# Altium footprint library 282841-2.PcbLib: 1 footprints
Each footprint in its own frame and in the unit in brackets; x right, y up, seen from the top. Pads: shape width x height; smd on the part's side, far side on the other; paste and mask are expansions set on the pad; w line width, h text height; cw(c..) or ccw(c..) is an arc to the next point about the centre after c.
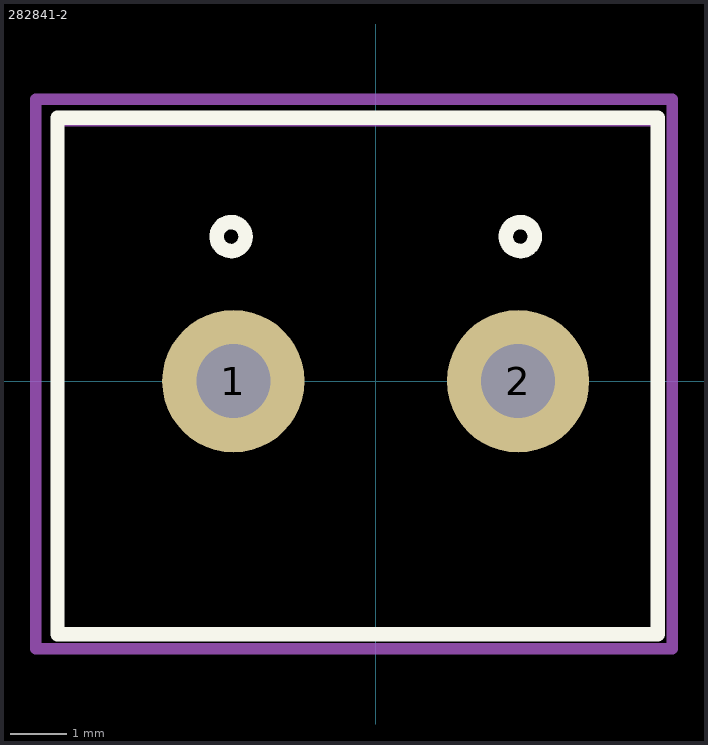
[diagram p0: the footprint, top view; thin cyan lines are the x and y axes]

## 282841-2 [mm]
pads (2):
  round 2.5 hole 1.3: 1(-2.5,0) 2(2.5,0)
Top Overlay:
  circle w0.254: c2.54,2.54 r0.254
  circle w0.254: c-2.54,2.54 r0.254
  lines w0.254: -5.588,-4.445 -5.588,4.625 4.953,4.625 4.953,-4.445 -5.588,-4.445
Top Assembly:
  lines w0.2: -5.588,-4.445 4.953,-4.445 4.953,4.572 -5.588,4.572 -5.588,-4.445
Top Courtyard:
  lines w0.2: -5.969,-4.699 5.207,-4.699 5.207,4.953 -5.969,4.953 -5.969,-4.699
3D body "c-282841-2-h4-3d.stp": height 15.2, standoff -3.5, extent -5.58,-4.445 5.08,4.555